# EAGLE library part POWERMISC_MCP6004 (library motor_board_tmc)
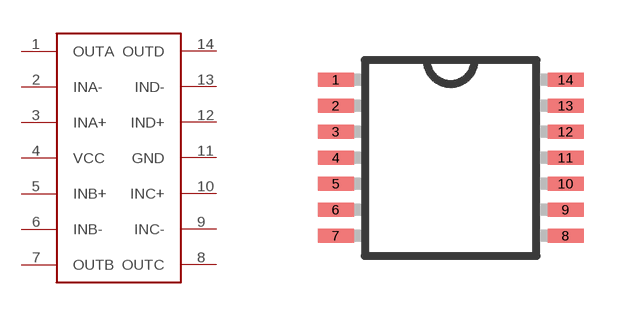
[diagram p4: symbol with the pads of POWERMISC_TSSOP14; footprint POWERMISC_TSSOP14]

Designator prefix U

## POWERMISC_MCP6004  [POWERMISC_TSSOP14]
1  OUTA
2  INA-
3  INA+
4  VCC
5  INB+
6  INB-
7  OUTB
8  OUTC
9  INC-
10  INC+
11  GND
12  IND+
13  IND-
14  OUTD

## Footprint POWERMISC_TSSOP14 (pad centres in mm)
14-Lead Thin Shrink Small Outline Package [TSSOP] Source: Analog Devices .. 780914713ADD8704_0.pdf
smd 0.9 x 0.35: 1 -2.875,1.95; 2 -2.875,1.3; 3 -2.875,0.65; 4 -2.875,0; 5 -2.875,-0.65; 6 -2.875,-1.3; 7 -2.875,-1.95; 8 2.875,-1.95; 9 2.875,-1.3; 10 2.875,-0.65; 11 2.875,0; 12 2.875,0.65; 13 2.875,1.3; 14 2.875,1.95